# EAGLE library part LPC11U37FBD48 (library nxp_60)
32-bit ARM Cortex-M0 microcontroller; up to 128 kB flash; up to 12 kB SRAM and 4 kB EEPROM; USB device; USART The LPC11U3x are a ARM Cortex-M0 based, low-cost 32-bit MCU family, designed for 8/16-bit microcontroller applications, offering performance, low power, simple instruction set and memory addressing together with reduced code size compared to existing 8/16-bit architectures. The LPC11U3x operate at CPU frequencies of up to 50 MHz. Equipped with a highly flexible and configurable Full Speed USB 2.0 device controller, the LPC11U3x brings unparalleled design flexibility and seamless integration to today’s demanding connectivity solutions. The peripheral complement of the LPC11U3x includes up to 128 kB of flash memory, up to 12 kB of SRAM data memory and 4 kB EEPROM, one Fast-mode Plus I 2 C-bus interface, one RS-485/EIA-485 USART with support for synchronous mode and smart card interface, two SSP interfaces, four general purpose counter/timers, a 10-bit ADC, and up to 54 general purpose I/O pins. AAL Eindhoven MK
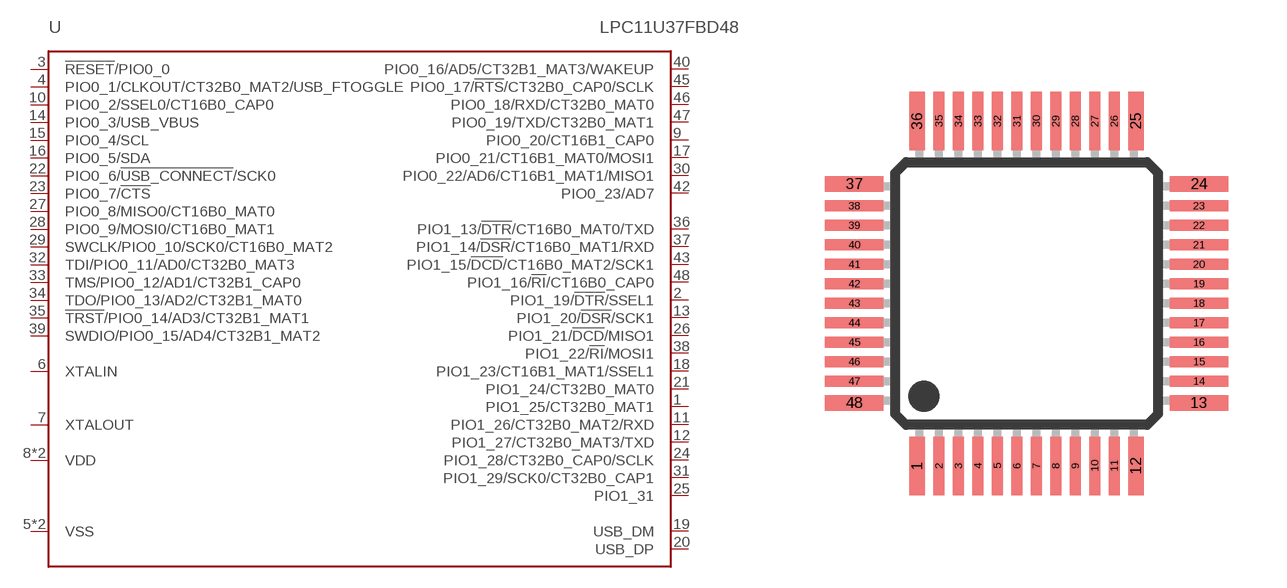
[diagram p121: symbol with the pads of SOT313-2; footprint SOT313-2]

Designator prefix U

## LPC11U37FBD48/401 (FLASH: 128kB; GPIO: 40; SRAM: 10kB)  [SOT313-2]
1  PIO1_25/CT32B0_MAT1
2  PIO1_19/!DTR!/SSEL1
3  !RESET!/PIO0_0
4  PIO0_1/CLKOUT/CT32B0_MAT2/USB_FTOGGLE
5  VSS  pwr
6  XTALIN  in
7  XTALOUT  out
8  VDD  pwr
9  PIO0_20/CT16B1_CAP0
10  PIO0_2/SSEL0/CT16B0_CAP0
11  PIO1_26/CT32B0_MAT2/RXD
12  PIO1_27/CT32B0_MAT3/TXD
13  PIO1_20/!DSR!/SCK1
14  PIO0_3/USB_VBUS
15  PIO0_4/SCL
16  PIO0_5/SDA
17  PIO0_21/CT16B1_MAT0/MOSI1
18  PIO1_23/CT16B1_MAT1/SSEL1
19  USB_DM
20  USB_DP
21  PIO1_24/CT32B0_MAT0
22  PIO0_6/!USB_CONNECT!/SCK0
23  PIO0_7/!CTS!
24  PIO1_28/CT32B0_CAP0/SCLK
25  PIO1_31
26  PIO1_21/!DCD!/MISO1
27  PIO0_8/MISO0/CT16B0_MAT0
28  PIO0_9/MOSI0/CT16B0_MAT1
29  SWCLK/PIO0_10/SCK0/CT16B0_MAT2
30  PIO0_22/AD6/CT16B1_MAT1/MISO1
31  PIO1_29/SCK0/CT32B0_CAP1
32  TDI/PIO0_11/AD0/CT32B0_MAT3
33  TMS/PIO0_12/AD1/CT32B1_CAP0
34  TDO/PIO0_13/AD2/CT32B1_MAT0
35  !TRST!/PIO0_14/AD3/CT32B1_MAT1
36  PIO1_13/!DTR!/CT16B0_MAT0/TXD
37  PIO1_14/!DSR!/CT16B0_MAT1/RXD
38  PIO1_22/!RI!/MOSI1
39  SWDIO/PIO0_15/AD4/CT32B1_MAT2
40  PIO0_16/AD5/CT32B1_MAT3/WAKEUP
41  VSS  pwr
42  PIO0_23/AD7
43  PIO1_15/!DCD!/CT16B0_MAT2/SCK1
44  VDD  pwr
45  PIO0_17/!RTS!/CT32B0_CAP0/SCLK
46  PIO0_18/RXD/CT32B0_MAT0
47  PIO0_19/TXD/CT32B0_MAT1
48  PIO1_16/!RI!/CT16B0_CAP0

## Footprint SOT313-2 (pad centres in mm)
SOT313-2 LQFP48: plastic low profile quad flat package; 48 leads; body 7 x 7 x 1.4 mm JEDEC: MS-026 IEC: 136E05 Footprint according to NXP SOT313-2 specification, however the cornerpins are 0.4mm in stead of 0.5mm. Probably an error in the specification.
smd 0.4 x 1.5: 1 -2.81,-4.425; 12 2.81,-4.425; 25 2.81,4.425; 36 -2.81,4.425
smd 0.28 x 1.5: 2 -2.25,-4.425; 3 -1.75,-4.425; 4 -1.25,-4.425; 5 -0.75,-4.425; 6 -0.25,-4.425; 7 0.25,-4.425; 8 0.75,-4.425; 9 1.25,-4.425; 10 1.75,-4.425; 11 2.25,-4.425; 26 2.25,4.425; 27 1.75,4.425; 28 1.25,4.425; 29 0.75,4.425; 30 0.25,4.425; 31 -0.25,4.425; 32 -0.75,4.425; 33 -1.25,4.425; 34 -1.75,4.425; 35 -2.25,4.425
smd 1.5 x 0.4: 13 4.425,-2.81; 24 4.425,2.81; 37 -4.425,2.81; 48 -4.425,-2.81
smd 1.5 x 0.28: 14 4.425,-2.25; 15 4.425,-1.75; 16 4.425,-1.25; 17 4.425,-0.75; 18 4.425,-0.25; 19 4.425,0.25; 20 4.425,0.75; 21 4.425,1.25; 22 4.425,1.75; 23 4.425,2.25; 38 -4.425,2.25; 39 -4.425,1.75; 40 -4.425,1.25; 41 -4.425,0.75; 42 -4.425,0.25; 43 -4.425,-0.25; 44 -4.425,-0.75; 45 -4.425,-1.25; 46 -4.425,-1.75; 47 -4.425,-2.25